# EAGLE library part LVM654 (library national)
12 MHz, Low Voltage, Low Power Amplifier (4 OPs)
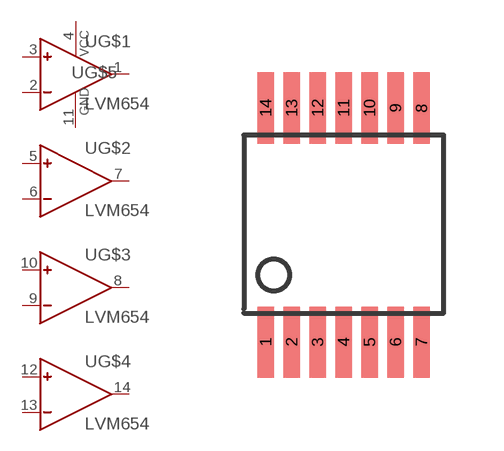
[diagram p3: symbol with the pads of TSSOP14; footprint TSSOP14]

Designator prefix -; gates G$1=OP G$2=OP G$3=OP G$4=OP G$5=PWRN

## LVM654MT  [TSSOP14]
1  G$1:OUT  out
2  G$1:IN-  in
3  G$1:IN+  in
4  G$5:VCC  pwr
5  G$2:IN+  in
6  G$2:IN-  in
7  G$2:OUT  out
8  G$3:OUT  out
9  G$3:IN-  in
10  G$3:IN+  in
11  G$5:GND  pwr
12  G$4:IN+  in
13  G$4:IN-  in
14  G$4:OUT  out

## Footprint TSSOP14 (pad centres in mm)
TSSOP-Package (NS Package Number MTC14) - alle Maße konform zum Datenblatt LMV65x von National Semiconductor - (Bauteilhöhe max. 1,1 mm)
smd 0.42 x 1.78: 1 -1.95,-2.925; 2 -1.3,-2.925; 3 -0.65,-2.925; 4 0,-2.925; 5 0.65,-2.925; 6 1.3,-2.925; 7 1.95,-2.925; 8 1.95,2.925; 9 1.3,2.925; 10 0.65,2.925; 11 0,2.925; 12 -0.65,2.925; 13 -1.3,2.925; 14 -1.95,2.925